# EAGLE library part TC7WH34FX (library LinnesLab-DigitalIC)
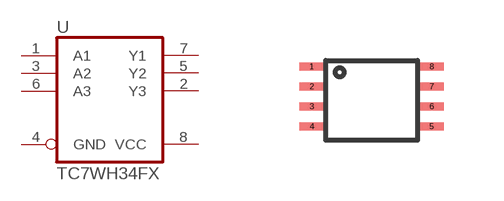
[diagram p1: symbol with the pads of SSOP8-P-0.50A; footprint SSOP8-P-0.50A]

Designator prefix -

## TC7WH34FXK  [SSOP8-P-0.50A]
1  A1  in
2  Y3  hiz
3  A2  in
4  GND  in
5  Y2  hiz
6  A3  in
7  Y1  hiz
8  VCC

## Footprint SSOP8-P-0.50A (pad centres in mm)
smd 0.6 x 0.2: 1 -1.5,0.85; 2 -1.5,0.35; 3 -1.5,-0.15; 4 -1.5,-0.65; 5 1.5,-0.65; 6 1.5,-0.15; 7 1.5,0.35; 8 1.5,0.85